# EAGLE library part AD5781 (library Marcell)
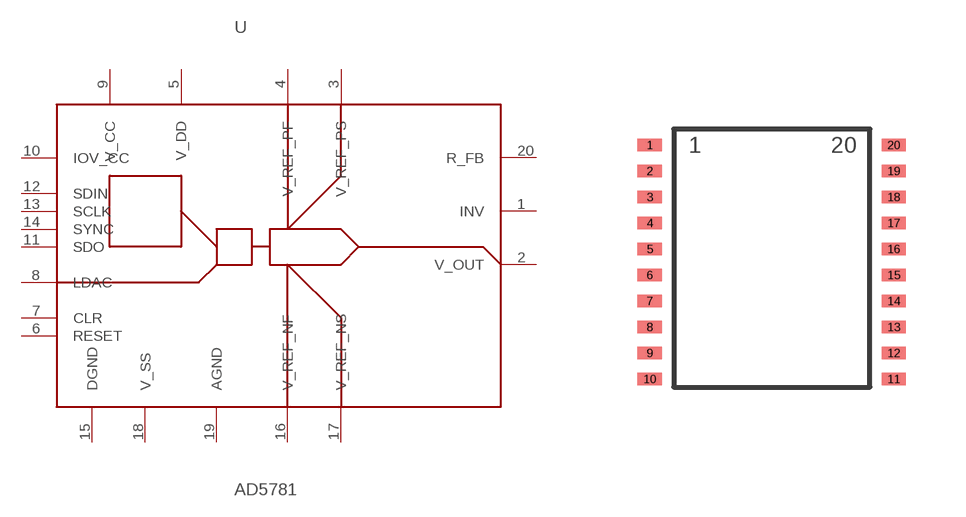
[diagram p1: symbol with the pads of TSSOP20; footprint TSSOP20]

Designator prefix -

## AD5781  [TSSOP20]
1  INV
2  V_OUT
3  V_REF_PS
4  V_REF_PF
5  V_DD
6  RESET
7  CLR
8  LDAC
9  V_CC
10  IOV_CC
11  SDO
12  SDIN
13  SCLK
14  SYNC
15  DGND
16  V_REF_NF
17  V_REF_NS
18  V_SS
19  AGND
20  R_FB

## Footprint TSSOP20 (pad centres in mm)
smd 0.61 x 0.305: 1 -2.752,3.25; 2 -2.752,2.6; 3 -2.752,1.95; 4 -2.752,1.3; 5 -2.752,0.65; 6 -2.752,0; 7 -2.752,-0.65; 8 -2.752,-1.3; 9 -2.752,-1.95; 10 -2.752,-2.6; 11 3.35,-2.6; 12 3.35,-1.95; 13 3.35,-1.3; 14 3.35,-0.65; 15 3.35,0; 16 3.35,0.65; 17 3.35,1.3; 18 3.35,1.95; 19 3.35,2.6; 20 3.35,3.25